# Altium schematic symbol library Relay.SchLib: 2 symbols
Pins are listed as number, name and electrical type; pins without a type are passive.

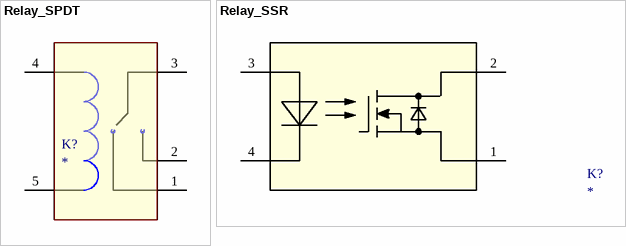
[diagram p0: symbols Relay_SPDT to Relay_SSR]

## Relay_SPDT
designator K?
Электромагнитное реле
pins: 1 pos1, 2 pos2, 3 base, 4 sw1, 5 sw2

## Relay_SSR
designator K?
Твердотельное реле
pins: 1, 2, 3 +, 4